# EAGLE library part SDR-RAM (library dimm)
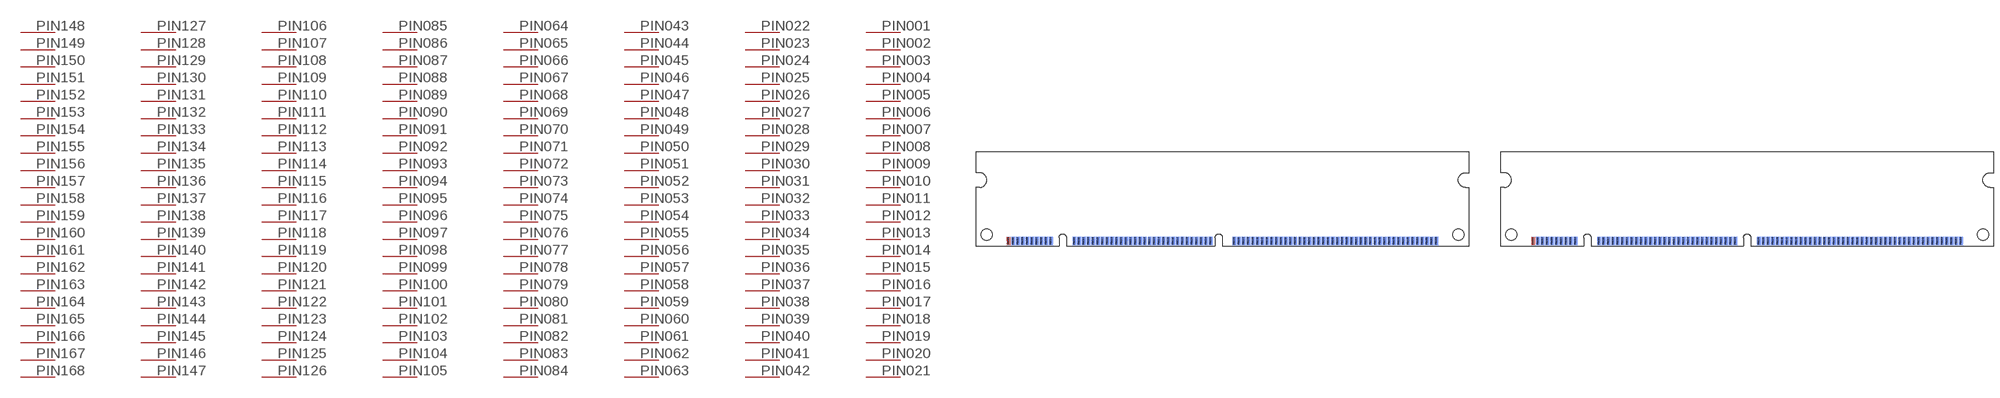
[diagram p0: symbol with the pads of 168PIN-SDRAM-D1; footprints 168PIN-SDRAM-D1, 168PIN-SDRAM-D2]

Designator prefix -; gates G$1=84PIN G$2=84PIN

## SDR-RAMD1  [168PIN-SDRAM-D1]
PIN001  G$1:P$1
PIN002  G$1:P$2
PIN003  G$1:P$3
PIN004  G$1:P$4
PIN005  G$1:P$5
PIN006  G$1:P$6
PIN007  G$1:P$7
PIN008  G$1:P$8
PIN009  G$1:P$9
PIN010  G$1:P$10
PIN011  G$1:P$11
PIN012  G$1:P$12
PIN013  G$1:P$13
PIN014  G$1:P$14
PIN015  G$1:P$15
PIN016  G$1:P$16
PIN017  G$1:P$17
PIN018  G$1:P$18
PIN019  G$1:P$19
PIN020  G$1:P$20
PIN021  G$1:P$21
PIN022  G$1:P$22
PIN023  G$1:P$23
PIN024  G$1:P$24
PIN025  G$1:P$25
PIN026  G$1:P$26
PIN027  G$1:P$27
PIN028  G$1:P$28
PIN029  G$1:P$29
PIN030  G$1:P$30
PIN031  G$1:P$31
PIN032  G$1:P$32
PIN033  G$1:P$33
PIN034  G$1:P$34
PIN035  G$1:P$35
PIN036  G$1:P$36
PIN037  G$1:P$37
PIN038  G$1:P$38
PIN039  G$1:P$39
PIN040  G$1:P$40
PIN041  G$1:P$41
PIN042  G$1:P$42
PIN043  G$1:P$43
PIN044  G$1:P$44
PIN045  G$1:P$45
PIN046  G$1:P$46
PIN047  G$1:P$47
PIN048  G$1:P$48
PIN049  G$1:P$49
PIN050  G$1:P$50
PIN051  G$1:P$51
PIN052  G$1:P$52
PIN053  G$1:P$53
PIN054  G$1:P$54
PIN055  G$1:P$55
PIN056  G$1:P$56
PIN057  G$1:P$57
PIN058  G$1:P$58
PIN059  G$1:P$59
PIN060  G$1:P$60
PIN061  G$1:P$61
PIN062  G$1:P$62
PIN063  G$1:P$63
PIN064  G$1:P$64
PIN065  G$1:P$65
PIN066  G$1:P$66
PIN067  G$1:P$67
PIN068  G$1:P$68
PIN069  G$1:P$69
PIN070  G$1:P$70
PIN071  G$1:P$71
PIN072  G$1:P$72
PIN073  G$1:P$73
PIN074  G$1:P$74
PIN075  G$1:P$75
PIN076  G$1:P$76
PIN077  G$1:P$77
PIN078  G$1:P$78
PIN079  G$1:P$79
PIN080  G$1:P$80
PIN081  G$1:P$81
PIN082  G$1:P$82
PIN083  G$1:P$83
PIN084  G$1:P$84
PIN085  G$2:P$1
PIN086  G$2:P$2
PIN087  G$2:P$3
PIN088  G$2:P$4
PIN089  G$2:P$5
PIN090  G$2:P$6
PIN091  G$2:P$7
PIN092  G$2:P$8
PIN093  G$2:P$9
PIN094  G$2:P$10
PIN095  G$2:P$11
PIN096  G$2:P$12
PIN097  G$2:P$13
PIN098  G$2:P$14
PIN099  G$2:P$15
PIN100  G$2:P$16
PIN101  G$2:P$17
PIN102  G$2:P$18
PIN103  G$2:P$19
PIN104  G$2:P$20
PIN105  G$2:P$21
PIN106  G$2:P$22
PIN107  G$2:P$23
PIN108  G$2:P$24
PIN109  G$2:P$25
PIN110  G$2:P$26
PIN111  G$2:P$27
PIN112  G$2:P$28
PIN113  G$2:P$29
PIN114  G$2:P$30
PIN115  G$2:P$31
PIN116  G$2:P$32
PIN117  G$2:P$33
PIN118  G$2:P$34
PIN119  G$2:P$35
PIN120  G$2:P$36
PIN121  G$2:P$37
PIN122  G$2:P$38
PIN123  G$2:P$39
PIN124  G$2:P$40
PIN125  G$2:P$41
PIN126  G$2:P$42
PIN127  G$2:P$43
PIN128  G$2:P$44
PIN129  G$2:P$45
PIN130  G$2:P$46
PIN131  G$2:P$47
PIN132  G$2:P$48
PIN133  G$2:P$49
PIN134  G$2:P$50
PIN135  G$2:P$51
PIN136  G$2:P$52
PIN137  G$2:P$53
PIN138  G$2:P$54
PIN139  G$2:P$55
PIN140  G$2:P$56
PIN141  G$2:P$57
PIN142  G$2:P$58
PIN143  G$2:P$59
PIN144  G$2:P$60
PIN145  G$2:P$61
PIN146  G$2:P$62
PIN147  G$2:P$63
PIN148  G$2:P$64
PIN149  G$2:P$65
PIN150  G$2:P$66
PIN151  G$2:P$67
PIN152  G$2:P$68
PIN153  G$2:P$69
PIN154  G$2:P$70
PIN155  G$2:P$71
PIN156  G$2:P$72
PIN157  G$2:P$73
PIN158  G$2:P$74
PIN159  G$2:P$75
PIN160  G$2:P$76
PIN161  G$2:P$77
PIN162  G$2:P$78
PIN163  G$2:P$79
PIN164  G$2:P$80
PIN165  G$2:P$81
PIN166  G$2:P$82
PIN167  G$2:P$83
PIN168  G$2:P$84

## SDR-RAMD2  [168PIN-SDRAM-D2]
Pads as for 168PIN-SDRAM-D1

## SDR-RAMD7  [168PIN-SDRAM-D7]
Pads as for 168PIN-SDRAM-D1

## SDR-RAMD8  [168PIN-SDRAM-D8]
Pads as for 168PIN-SDRAM-D1

## Footprint 168PIN-SDRAM-D1 (pad centres in mm)
SDR SDRAM Double Inline Memory Module 168 Pin 1st Generation 5.0V JEDEC MO-161f
smd 1 x 2.3: PIN001 -57.785,1.35; PIN002 -56.515,1.35; PIN003 -55.245,1.35; PIN004 -53.975,1.35; PIN005 -52.705,1.35; PIN006 -51.435,1.35; PIN007 -50.165,1.35; PIN008 -48.895,1.35; PIN009 -47.625,1.35; PIN010 -46.355,1.35; PIN011 -40.005,1.35; PIN012 -38.735,1.35; PIN013 -37.465,1.35; PIN014 -36.195,1.35; PIN015 -34.925,1.35; PIN016 -33.655,1.35; PIN017 -32.385,1.35; PIN018 -31.115,1.35; PIN019 -29.845,1.35; PIN020 -28.575,1.35; PIN021 -27.305,1.35; PIN022 -26.035,1.35; PIN023 -24.765,1.35; PIN024 -23.495,1.35; PIN025 -22.225,1.35; PIN026 -20.955,1.35; PIN027 -19.685,1.35; PIN028 -18.415,1.35; PIN029 -17.145,1.35; PIN030 -15.875,1.35; PIN031 -14.605,1.35; PIN032 -13.335,1.35; PIN033 -12.065,1.35; PIN034 -10.795,1.35; PIN035 -9.525,1.35; PIN036 -8.255,1.35; PIN037 -6.985,1.35; PIN038 -5.715,1.35; PIN039 -4.445,1.35; PIN040 -3.175,1.35; PIN041 3.175,1.35; PIN042 4.445,1.35; PIN043 5.715,1.35; PIN044 6.985,1.35; PIN045 8.255,1.35; PIN046 9.525,1.35; PIN047 10.795,1.35; PIN048 12.065,1.35; PIN049 13.335,1.35; PIN050 14.605,1.35; PIN051 15.875,1.35; PIN052 17.145,1.35; PIN053 18.415,1.35; PIN054 19.685,1.35; PIN055 20.955,1.35; PIN056 22.225,1.35; PIN057 23.495,1.35; PIN058 24.765,1.35; PIN059 26.035,1.35; PIN060 27.305,1.35; PIN061 28.575,1.35; PIN062 29.845,1.35; PIN063 31.115,1.35; PIN064 32.385,1.35; PIN065 33.655,1.35; PIN066 34.925,1.35; PIN067 36.195,1.35; PIN068 37.465,1.35; PIN069 38.735,1.35; PIN070 40.005,1.35; PIN071 41.275,1.35; PIN072 42.545,1.35; PIN073 43.815,1.35; PIN074 45.085,1.35; PIN075 46.355,1.35; PIN076 47.625,1.35; PIN077 48.895,1.35; PIN078 50.165,1.35; PIN079 51.435,1.35; PIN080 52.705,1.35; PIN081 53.975,1.35; PIN082 55.245,1.35; PIN083 56.515,1.35; PIN084 57.785,1.35
smd 1 x 2.3 bottom: PIN085 -57.785,1.35; PIN086 -56.515,1.35; PIN087 -55.245,1.35; PIN088 -53.975,1.35; PIN089 -52.705,1.35; PIN090 -51.435,1.35; PIN091 -50.165,1.35; PIN092 -48.895,1.35; PIN093 -47.625,1.35; PIN094 -46.355,1.35; PIN095 -40.005,1.35; PIN096 -38.735,1.35; PIN097 -37.465,1.35; PIN098 -36.195,1.35; PIN099 -34.925,1.35; PIN100 -33.655,1.35; PIN101 -32.385,1.35; PIN102 -31.115,1.35; PIN103 -29.845,1.35; PIN104 -28.575,1.35; PIN105 -27.305,1.35; PIN106 -26.035,1.35; PIN107 -24.765,1.35; PIN108 -23.495,1.35; PIN109 -22.225,1.35; PIN110 -20.955,1.35; PIN111 -19.685,1.35; PIN112 -18.415,1.35; PIN113 -17.145,1.35; PIN114 -15.875,1.35; PIN115 -14.605,1.35; PIN116 -13.335,1.35; PIN117 -12.065,1.35; PIN118 -10.795,1.35; PIN119 -9.525,1.35; PIN120 -8.255,1.35; PIN121 -6.985,1.35; PIN122 -5.715,1.35; PIN123 -4.445,1.35; PIN124 -3.175,1.35; PIN125 3.175,1.35; PIN126 4.445,1.35; PIN127 5.715,1.35; PIN128 6.985,1.35; PIN129 8.255,1.35; PIN130 9.525,1.35; PIN131 10.795,1.35; PIN132 12.065,1.35; PIN133 13.335,1.35; PIN134 14.605,1.35; PIN135 15.875,1.35; PIN136 17.145,1.35; PIN137 18.415,1.35; PIN138 19.685,1.35; PIN139 20.955,1.35; PIN140 22.225,1.35; PIN141 23.495,1.35; PIN142 24.765,1.35; PIN143 26.035,1.35; PIN144 27.305,1.35; PIN145 28.575,1.35; PIN146 29.845,1.35; PIN147 31.115,1.35; PIN148 32.385,1.35; PIN149 33.655,1.35; PIN150 34.925,1.35; PIN151 36.195,1.35; PIN152 37.465,1.35; PIN153 38.735,1.35; PIN154 40.005,1.35; PIN155 41.275,1.35; PIN156 42.545,1.35; PIN157 43.815,1.35; PIN158 45.085,1.35; PIN159 46.355,1.35; PIN160 47.625,1.35; PIN161 48.895,1.35; PIN162 50.165,1.35; PIN163 51.435,1.35; PIN164 52.705,1.35; PIN165 53.975,1.35; PIN166 55.245,1.35; PIN167 56.515,1.35; PIN168 57.785,1.35

## Footprint 168PIN-SDRAM-D2 (pad centres in mm)
SDR SDRAM Double Inline Memory Module 168 Pin 1st Generation 3.3V JEDEC MO-161f
smd 1 x 2.3: PIN001 -57.785,1.35; PIN002 -56.515,1.35; PIN003 -55.245,1.35; PIN004 -53.975,1.35; PIN005 -52.705,1.35; PIN006 -51.435,1.35; PIN007 -50.165,1.35; PIN008 -48.895,1.35; PIN009 -47.625,1.35; PIN010 -46.355,1.35; PIN011 -40.005,1.35; PIN012 -38.735,1.35; PIN013 -37.465,1.35; PIN014 -36.195,1.35; PIN015 -34.925,1.35; PIN016 -33.655,1.35; PIN017 -32.385,1.35; PIN018 -31.115,1.35; PIN019 -29.845,1.35; PIN020 -28.575,1.35; PIN021 -27.305,1.35; PIN022 -26.035,1.35; PIN023 -24.765,1.35; PIN024 -23.495,1.35; PIN025 -22.225,1.35; PIN026 -20.955,1.35; PIN027 -19.685,1.35; PIN028 -18.415,1.35; PIN029 -17.145,1.35; PIN030 -15.875,1.35; PIN031 -14.605,1.35; PIN032 -13.335,1.35; PIN033 -12.065,1.35; PIN034 -10.795,1.35; PIN035 -9.525,1.35; PIN036 -8.255,1.35; PIN037 -6.985,1.35; PIN038 -5.715,1.35; PIN039 -4.445,1.35; PIN040 -3.175,1.35; PIN041 3.175,1.35; PIN042 4.445,1.35; PIN043 5.715,1.35; PIN044 6.985,1.35; PIN045 8.255,1.35; PIN046 9.525,1.35; PIN047 10.795,1.35; PIN048 12.065,1.35; PIN049 13.335,1.35; PIN050 14.605,1.35; PIN051 15.875,1.35; PIN052 17.145,1.35; PIN053 18.415,1.35; PIN054 19.685,1.35; PIN055 20.955,1.35; PIN056 22.225,1.35; PIN057 23.495,1.35; PIN058 24.765,1.35; PIN059 26.035,1.35; PIN060 27.305,1.35; PIN061 28.575,1.35; PIN062 29.845,1.35; PIN063 31.115,1.35; PIN064 32.385,1.35; PIN065 33.655,1.35; PIN066 34.925,1.35; PIN067 36.195,1.35; PIN068 37.465,1.35; PIN069 38.735,1.35; PIN070 40.005,1.35; PIN071 41.275,1.35; PIN072 42.545,1.35; PIN073 43.815,1.35; PIN074 45.085,1.35; PIN075 46.355,1.35; PIN076 47.625,1.35; PIN077 48.895,1.35; PIN078 50.165,1.35; PIN079 51.435,1.35; PIN080 52.705,1.35; PIN081 53.975,1.35; PIN082 55.245,1.35; PIN083 56.515,1.35; PIN084 57.785,1.35
smd 1 x 2.3 bottom: PIN085 -57.785,1.35; PIN086 -56.515,1.35; PIN087 -55.245,1.35; PIN088 -53.975,1.35; PIN089 -52.705,1.35; PIN090 -51.435,1.35; PIN091 -50.165,1.35; PIN092 -48.895,1.35; PIN093 -47.625,1.35; PIN094 -46.355,1.35; PIN095 -40.005,1.35; PIN096 -38.735,1.35; PIN097 -37.465,1.35; PIN098 -36.195,1.35; PIN099 -34.925,1.35; PIN100 -33.655,1.35; PIN101 -32.385,1.35; PIN102 -31.115,1.35; PIN103 -29.845,1.35; PIN104 -28.575,1.35; PIN105 -27.305,1.35; PIN106 -26.035,1.35; PIN107 -24.765,1.35; PIN108 -23.495,1.35; PIN109 -22.225,1.35; PIN110 -20.955,1.35; PIN111 -19.685,1.35; PIN112 -18.415,1.35; PIN113 -17.145,1.35; PIN114 -15.875,1.35; PIN115 -14.605,1.35; PIN116 -13.335,1.35; PIN117 -12.065,1.35; PIN118 -10.795,1.35; PIN119 -9.525,1.35; PIN120 -8.255,1.35; PIN121 -6.985,1.35; PIN122 -5.715,1.35; PIN123 -4.445,1.35; PIN124 -3.175,1.35; PIN125 3.175,1.35; PIN126 4.445,1.35; PIN127 5.715,1.35; PIN128 6.985,1.35; PIN129 8.255,1.35; PIN130 9.525,1.35; PIN131 10.795,1.35; PIN132 12.065,1.35; PIN133 13.335,1.35; PIN134 14.605,1.35; PIN135 15.875,1.35; PIN136 17.145,1.35; PIN137 18.415,1.35; PIN138 19.685,1.35; PIN139 20.955,1.35; PIN140 22.225,1.35; PIN141 23.495,1.35; PIN142 24.765,1.35; PIN143 26.035,1.35; PIN144 27.305,1.35; PIN145 28.575,1.35; PIN146 29.845,1.35; PIN147 31.115,1.35; PIN148 32.385,1.35; PIN149 33.655,1.35; PIN150 34.925,1.35; PIN151 36.195,1.35; PIN152 37.465,1.35; PIN153 38.735,1.35; PIN154 40.005,1.35; PIN155 41.275,1.35; PIN156 42.545,1.35; PIN157 43.815,1.35; PIN158 45.085,1.35; PIN159 46.355,1.35; PIN160 47.625,1.35; PIN161 48.895,1.35; PIN162 50.165,1.35; PIN163 51.435,1.35; PIN164 52.705,1.35; PIN165 53.975,1.35; PIN166 55.245,1.35; PIN167 56.515,1.35; PIN168 57.785,1.35

## Footprint 168PIN-SDRAM-D7 (pad centres in mm)
SDR SDRAM Double Inline Memory Module 168 Pin 2nd Generation 5.0V JEDEC MO-161f
smd 1 x 2.3: PIN001 -57.785,1.35; PIN002 -56.515,1.35; PIN003 -55.245,1.35; PIN004 -53.975,1.35; PIN005 -52.705,1.35; PIN006 -51.435,1.35; PIN007 -50.165,1.35; PIN008 -48.895,1.35; PIN009 -47.625,1.35; PIN010 -46.355,1.35; PIN011 -40.005,1.35; PIN012 -38.735,1.35; PIN013 -37.465,1.35; PIN014 -36.195,1.35; PIN015 -34.925,1.35; PIN016 -33.655,1.35; PIN017 -32.385,1.35; PIN018 -31.115,1.35; PIN019 -29.845,1.35; PIN020 -28.575,1.35; PIN021 -27.305,1.35; PIN022 -26.035,1.35; PIN023 -24.765,1.35; PIN024 -23.495,1.35; PIN025 -22.225,1.35; PIN026 -20.955,1.35; PIN027 -19.685,1.35; PIN028 -18.415,1.35; PIN029 -17.145,1.35; PIN030 -15.875,1.35; PIN031 -14.605,1.35; PIN032 -13.335,1.35; PIN033 -12.065,1.35; PIN034 -10.795,1.35; PIN035 -9.525,1.35; PIN036 -8.255,1.35; PIN037 -6.985,1.35; PIN038 -5.715,1.35; PIN039 -4.445,1.35; PIN040 -3.175,1.35; PIN041 3.175,1.35; PIN042 4.445,1.35; PIN043 5.715,1.35; PIN044 6.985,1.35; PIN045 8.255,1.35; PIN046 9.525,1.35; PIN047 10.795,1.35; PIN048 12.065,1.35; PIN049 13.335,1.35; PIN050 14.605,1.35; PIN051 15.875,1.35; PIN052 17.145,1.35; PIN053 18.415,1.35; PIN054 19.685,1.35; PIN055 20.955,1.35; PIN056 22.225,1.35; PIN057 23.495,1.35; PIN058 24.765,1.35; PIN059 26.035,1.35; PIN060 27.305,1.35; PIN061 28.575,1.35; PIN062 29.845,1.35; PIN063 31.115,1.35; PIN064 32.385,1.35; PIN065 33.655,1.35; PIN066 34.925,1.35; PIN067 36.195,1.35; PIN068 37.465,1.35; PIN069 38.735,1.35; PIN070 40.005,1.35; PIN071 41.275,1.35; PIN072 42.545,1.35; PIN073 43.815,1.35; PIN074 45.085,1.35; PIN075 46.355,1.35; PIN076 47.625,1.35; PIN077 48.895,1.35; PIN078 50.165,1.35; PIN079 51.435,1.35; PIN080 52.705,1.35; PIN081 53.975,1.35; PIN082 55.245,1.35; PIN083 56.515,1.35; PIN084 57.785,1.35
smd 1 x 2.3 bottom: PIN085 -57.785,1.35; PIN086 -56.515,1.35; PIN087 -55.245,1.35; PIN088 -53.975,1.35; PIN089 -52.705,1.35; PIN090 -51.435,1.35; PIN091 -50.165,1.35; PIN092 -48.895,1.35; PIN093 -47.625,1.35; PIN094 -46.355,1.35; PIN095 -40.005,1.35; PIN096 -38.735,1.35; PIN097 -37.465,1.35; PIN098 -36.195,1.35; PIN099 -34.925,1.35; PIN100 -33.655,1.35; PIN101 -32.385,1.35; PIN102 -31.115,1.35; PIN103 -29.845,1.35; PIN104 -28.575,1.35; PIN105 -27.305,1.35; PIN106 -26.035,1.35; PIN107 -24.765,1.35; PIN108 -23.495,1.35; PIN109 -22.225,1.35; PIN110 -20.955,1.35; PIN111 -19.685,1.35; PIN112 -18.415,1.35; PIN113 -17.145,1.35; PIN114 -15.875,1.35; PIN115 -14.605,1.35; PIN116 -13.335,1.35; PIN117 -12.065,1.35; PIN118 -10.795,1.35; PIN119 -9.525,1.35; PIN120 -8.255,1.35; PIN121 -6.985,1.35; PIN122 -5.715,1.35; PIN123 -4.445,1.35; PIN124 -3.175,1.35; PIN125 3.175,1.35; PIN126 4.445,1.35; PIN127 5.715,1.35; PIN128 6.985,1.35; PIN129 8.255,1.35; PIN130 9.525,1.35; PIN131 10.795,1.35; PIN132 12.065,1.35; PIN133 13.335,1.35; PIN134 14.605,1.35; PIN135 15.875,1.35; PIN136 17.145,1.35; PIN137 18.415,1.35; PIN138 19.685,1.35; PIN139 20.955,1.35; PIN140 22.225,1.35; PIN141 23.495,1.35; PIN142 24.765,1.35; PIN143 26.035,1.35; PIN144 27.305,1.35; PIN145 28.575,1.35; PIN146 29.845,1.35; PIN147 31.115,1.35; PIN148 32.385,1.35; PIN149 33.655,1.35; PIN150 34.925,1.35; PIN151 36.195,1.35; PIN152 37.465,1.35; PIN153 38.735,1.35; PIN154 40.005,1.35; PIN155 41.275,1.35; PIN156 42.545,1.35; PIN157 43.815,1.35; PIN158 45.085,1.35; PIN159 46.355,1.35; PIN160 47.625,1.35; PIN161 48.895,1.35; PIN162 50.165,1.35; PIN163 51.435,1.35; PIN164 52.705,1.35; PIN165 53.975,1.35; PIN166 55.245,1.35; PIN167 56.515,1.35; PIN168 57.785,1.35

## Footprint 168PIN-SDRAM-D8 (pad centres in mm)
SDR SDRAM Double Inline Memory Module 168 Pin 2nd Generation 3.3V JEDEC MO-161f
smd 1 x 2.3: PIN001 -57.785,1.35; PIN002 -56.515,1.35; PIN003 -55.245,1.35; PIN004 -53.975,1.35; PIN005 -52.705,1.35; PIN006 -51.435,1.35; PIN007 -50.165,1.35; PIN008 -48.895,1.35; PIN009 -47.625,1.35; PIN010 -46.355,1.35; PIN011 -40.005,1.35; PIN012 -38.735,1.35; PIN013 -37.465,1.35; PIN014 -36.195,1.35; PIN015 -34.925,1.35; PIN016 -33.655,1.35; PIN017 -32.385,1.35; PIN018 -31.115,1.35; PIN019 -29.845,1.35; PIN020 -28.575,1.35; PIN021 -27.305,1.35; PIN022 -26.035,1.35; PIN023 -24.765,1.35; PIN024 -23.495,1.35; PIN025 -22.225,1.35; PIN026 -20.955,1.35; PIN027 -19.685,1.35; PIN028 -18.415,1.35; PIN029 -17.145,1.35; PIN030 -15.875,1.35; PIN031 -14.605,1.35; PIN032 -13.335,1.35; PIN033 -12.065,1.35; PIN034 -10.795,1.35; PIN035 -9.525,1.35; PIN036 -8.255,1.35; PIN037 -6.985,1.35; PIN038 -5.715,1.35; PIN039 -4.445,1.35; PIN040 -3.175,1.35; PIN041 3.175,1.35; PIN042 4.445,1.35; PIN043 5.715,1.35; PIN044 6.985,1.35; PIN045 8.255,1.35; PIN046 9.525,1.35; PIN047 10.795,1.35; PIN048 12.065,1.35; PIN049 13.335,1.35; PIN050 14.605,1.35; PIN051 15.875,1.35; PIN052 17.145,1.35; PIN053 18.415,1.35; PIN054 19.685,1.35; PIN055 20.955,1.35; PIN056 22.225,1.35; PIN057 23.495,1.35; PIN058 24.765,1.35; PIN059 26.035,1.35; PIN060 27.305,1.35; PIN061 28.575,1.35; PIN062 29.845,1.35; PIN063 31.115,1.35; PIN064 32.385,1.35; PIN065 33.655,1.35; PIN066 34.925,1.35; PIN067 36.195,1.35; PIN068 37.465,1.35; PIN069 38.735,1.35; PIN070 40.005,1.35; PIN071 41.275,1.35; PIN072 42.545,1.35; PIN073 43.815,1.35; PIN074 45.085,1.35; PIN075 46.355,1.35; PIN076 47.625,1.35; PIN077 48.895,1.35; PIN078 50.165,1.35; PIN079 51.435,1.35; PIN080 52.705,1.35; PIN081 53.975,1.35; PIN082 55.245,1.35; PIN083 56.515,1.35; PIN084 57.785,1.35
smd 1 x 2.3 bottom: PIN085 -57.785,1.35; PIN086 -56.515,1.35; PIN087 -55.245,1.35; PIN088 -53.975,1.35; PIN089 -52.705,1.35; PIN090 -51.435,1.35; PIN091 -50.165,1.35; PIN092 -48.895,1.35; PIN093 -47.625,1.35; PIN094 -46.355,1.35; PIN095 -40.005,1.35; PIN096 -38.735,1.35; PIN097 -37.465,1.35; PIN098 -36.195,1.35; PIN099 -34.925,1.35; PIN100 -33.655,1.35; PIN101 -32.385,1.35; PIN102 -31.115,1.35; PIN103 -29.845,1.35; PIN104 -28.575,1.35; PIN105 -27.305,1.35; PIN106 -26.035,1.35; PIN107 -24.765,1.35; PIN108 -23.495,1.35; PIN109 -22.225,1.35; PIN110 -20.955,1.35; PIN111 -19.685,1.35; PIN112 -18.415,1.35; PIN113 -17.145,1.35; PIN114 -15.875,1.35; PIN115 -14.605,1.35; PIN116 -13.335,1.35; PIN117 -12.065,1.35; PIN118 -10.795,1.35; PIN119 -9.525,1.35; PIN120 -8.255,1.35; PIN121 -6.985,1.35; PIN122 -5.715,1.35; PIN123 -4.445,1.35; PIN124 -3.175,1.35; PIN125 3.175,1.35; PIN126 4.445,1.35; PIN127 5.715,1.35; PIN128 6.985,1.35; PIN129 8.255,1.35; PIN130 9.525,1.35; PIN131 10.795,1.35; PIN132 12.065,1.35; PIN133 13.335,1.35; PIN134 14.605,1.35; PIN135 15.875,1.35; PIN136 17.145,1.35; PIN137 18.415,1.35; PIN138 19.685,1.35; PIN139 20.955,1.35; PIN140 22.225,1.35; PIN141 23.495,1.35; PIN142 24.765,1.35; PIN143 26.035,1.35; PIN144 27.305,1.35; PIN145 28.575,1.35; PIN146 29.845,1.35; PIN147 31.115,1.35; PIN148 32.385,1.35; PIN149 33.655,1.35; PIN150 34.925,1.35; PIN151 36.195,1.35; PIN152 37.465,1.35; PIN153 38.735,1.35; PIN154 40.005,1.35; PIN155 41.275,1.35; PIN156 42.545,1.35; PIN157 43.815,1.35; PIN158 45.085,1.35; PIN159 46.355,1.35; PIN160 47.625,1.35; PIN161 48.895,1.35; PIN162 50.165,1.35; PIN163 51.435,1.35; PIN164 52.705,1.35; PIN165 53.975,1.35; PIN166 55.245,1.35; PIN167 56.515,1.35; PIN168 57.785,1.35